# Altium schematic symbol library Custom1.SchLib: 476 symbols (part 12 of 16)
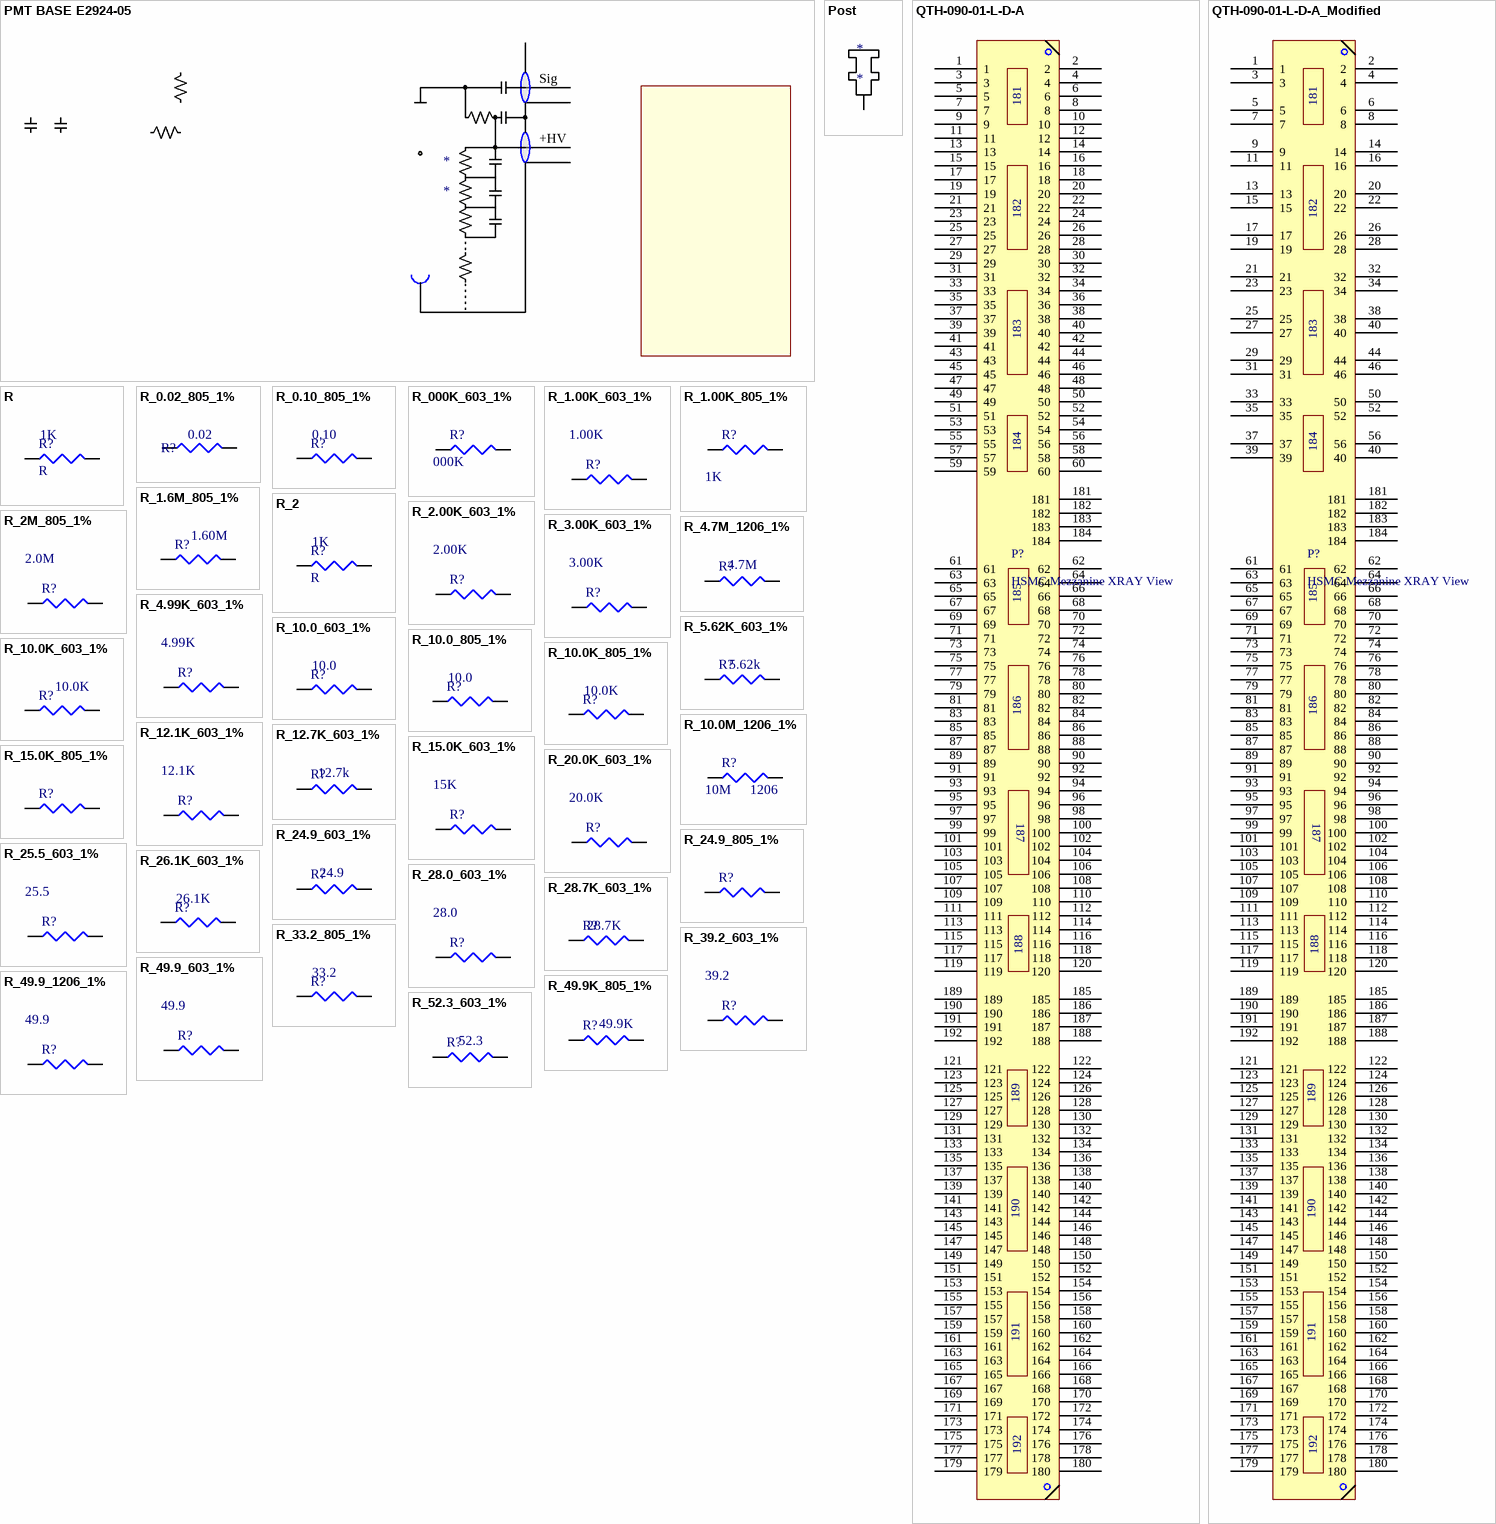
[diagram p36: symbols PMT BASE E2924-05 to R_52.3_603_1%]

## R_25.5_603_1%
designator R?  Resistance: 25.5  (hidden comment: R_25.5_603_1%)
RES 25.5 OHM 1/10W 1% 0603 SMD; Manufacturer: Panasonic; Manufacturer Part Number: ERJ3EKF25R5V; Power Rating: 100mW; Voltage Rating: 75V; Temperature Coefficient: 100ppm/°C; Voltage Rating (DC): 50V; Supplier 1: Digi-Key; Stock 1: 328927; Pricing 1: 1 = 0.10000, 10 = 0.06500, 100 = 0.02640, 1000 = 0.01186, 2500 = 0.01029 (USD); RoHS: Yes; Mount: Surface Mount; Case/Package: 0603; Weight: 7.1E-05oz; Case Code (Metric): 1608; Case Code (Imperial): 0603; Contact Plating: Tin; Min Operating Temperature: -55°C; Max Operating Temperature: 155°C; Tolerance: 1%; Packaging: Tape and Reel; Package Quantity: 1; Composition: Thick Film; Number of Terminations: 2; Termination: SMD/SMT; Max Power Dissipation: 100mW; Features: Automotive AEC-Q200; Length: 0.063inch; Height: 0.022inch; Width: 0.031inch; REACH SVHC: Yes; Lead Free: Lead Free; ComponentLink1URL: https://datasheet.ciiva.com/46419/1678782-46419831.pdf?src-supplier=Element14; ComponentLink1Description: https://datasheet.ciiva.com/46419/1678782-46419831.pdf?src-supplier=Element14; ComponentLink2URL: https://datasheet.ciiva.com/7777/1678782-7777965.pdf?src-supplier=Element14; ComponentLink2Description: https://datasheet.ciiva.com/7777/1678782-7777965.pdf?src-supplier=Element14; ComponentLink3URL: https://datasheet.ciiva.com/22667/1678782-22667770.pdf?src-supplier=Element14; ComponentLink3Description: https://datasheet.ciiva.com/22667/1678782-22667770.pdf?src-supplier=Element14; ComponentLink4URL: https://datasheet.ciiva.com/30155/aoa0000ce2-30155996.pdf?src-supplier=Onlinecomponents.com; ComponentLink4Description: https://datasheet.ciiva.com/30155/aoa0000ce2-30155996.pdf?src-supplier=Onlinecomponents.com; Supplier Part Number 1: P25.5HCT-ND
simulation model RESISTOR (Resistor)
signal-integrity model Res
footprint RES_0603 (Chip Resistor, Body 1.6x0.8mm, IPC Medium Density)
pins: 1, 2

## R_26.1K_603_1%
designator R?  value 26.1K  (hidden comment: R_26.1K_603_1%)
RES 26.1K OHM 1/10W 1% 0603 SMD; Manufacturer: Vishay Dale; Manufacturer Part Number: CRCW060326K1FKEA; Power (Watts): 0.1W, 1/10W; Temperature Coefficient: ±100ppm/°C; Supplier 1: Digi-Key; Supplier Part Number 1: 541-26.1KHCT-ND; RoHS: RoHS Compliant; Category: Resistors; Stock: 18995; Pricing: 10=0.081, 50=0.0436, 200=0.0251, 1000=0.01711 (USD); Packaging: Cut Tape (CT); Resistance (Ohms): 26.1k; Tolerance: ±1%; Composition: Thick Film; Features: Automotive AEC-Q200 Qualified; Package / Case: 0603 (1608 Metric); Supplier Device Package: 0603 (1608 Metric); Size / Dimension: 0.061" L x 0.033" W (1.55mm x 0.85mm); Height: 0.020" (0.50mm); Number of Terminations: 2; ComponentLink1URL: http://www.vishay.com/doc?20035; ComponentLink1Description: http://www.vishay.com/doc?20035
simulation model RESISTOR (Resistor)
signal-integrity model Res
footprint RES_0603 (Chip Resistor, Body 1.6x0.8mm, IPC Medium Density)
pins: 1, 2

## R_28.0_603_1%
designator R?  Resistance: 28.0  (hidden comment: R_28.0_603_1%)
RES 28.0 OHM 1/10W 1% 0603 SMD; Manufacturer: Panasonic; Manufacturer Part Number: ERJ3EKF28R0V; Power Rating: 100mW; Voltage Rating: 75V; Temperature Coefficient: 100ppm/°C; Voltage Rating (DC): 50V; Supplier 1: Digi-Key; Stock 1: 75130; Pricing 1: 1 = 0.10000, 10 = 0.06500, 100 = 0.02640, 1000 = 0.01186, 2500 = 0.01029 (USD); RoHS: Yes; Mount: Surface Mount; Case/Package: 0603; Case Code (Imperial): 0603; Case Code (Metric): 1608; Contact Plating: Tin; Min Operating Temperature: -55°C; Max Operating Temperature: 155°C; Tolerance: 1%; Package Quantity: 1; Packaging: Tape and Reel; Composition: Thick Film; Number of Terminations: 2; Max Power Dissipation: 100mW; Features: Automotive AEC-Q200; Length: 1.6mm; Height: 0.022inch; Width: 0.8mm; Radiation Hardening: No; REACH SVHC: Yes; Lead Free: Lead Free; ComponentLink1URL: https://datasheet.ciiva.com/46437/1678782-46437594.pdf?src-supplier=Element14; ComponentLink1Description: https://datasheet.ciiva.com/46437/1678782-46437594.pdf?src-supplier=Element14; ComponentLink2URL: https://datasheet.ciiva.com/22676/1678782-22676667.pdf?src-supplier=Element14; ComponentLink2Description: https://datasheet.ciiva.com/22676/1678782-22676667.pdf?src-supplier=Element14; ComponentLink3URL: https://datasheet.ciiva.com/22736/1678782-22736555.pdf?src-supplier=Element14; ComponentLink3Description: https://datasheet.ciiva.com/22736/1678782-22736555.pdf?src-supplier=Element14; Supplier Part Number 1: P28.0HCT-ND
simulation model RESISTOR (Resistor)
signal-integrity model Res
footprint RES_0603 (Chip Resistor, Body 1.6x0.8mm, IPC Medium Density)
pins: 1, 2

## R_28.7K_603_1%
designator R?  value 28.7K  (hidden comment: R_28.7K_603_1%)
RES 28.7K OHM 1/10W 1% 0603 SMD; Manufacturer: Vishay Dale; Manufacturer Part Number: CRCW060328K7FKEA; Power (Watts): 0.1W, 1/10W; Temperature Coefficient: ±100ppm/°C; Supplier 1: Digi-Key; RoHS: RoHS Compliant; Category: Resistors; Stock 1: 60; Pricing 1: 10=0.081, 50=0.0436, 200=0.0251, 1000=0.01711 (USD); Packaging: Cut Tape (CT); Resistance (Ohms): 28.7k; Tolerance: ±1%; Composition: Thick Film; Features: Automotive AEC-Q200; Operating Temperature: -55°C ~ 155°C; Package / Case: 0603 (1608 Metric); Supplier Device Package: 0603 (1608 Metric); Size / Dimension: 0.061" L x 0.033" W (1.55mm x 0.85mm); Height: 0.020" (0.50mm); Number of Terminations: 2; ComponentLink1URL: http://www.vishay.com/docs/20035/dcrcwe3.pdf; ComponentLink1Description: http://www.vishay.com/docs/20035/dcrcwe3.pdf; Supplier Part Number 1: 541-28.7KHCT-ND
simulation model RESISTOR (Resistor)
signal-integrity model Res
footprint RES_0603 (Chip Resistor, Body 1.6x0.8mm, IPC Medium Density)
pins: 1, 2

## R_33.2_805_1%
designator R?  value 33.2  (hidden comment: R_33.2_805_1%)
RES 33.2 OHM 1/8W 1% 0805 SMD; Manufacturer: Vishay Dale; Manufacturer Part Number: CRCW080533R2FKEA; Power (Watts): 0.125W, 1/8W; Temperature Coefficient: ±100ppm/°C; Supplier 1: Digi-Key; Supplier Part Number 1: 541-33.2CCT-ND; RoHS: RoHS Compliant; Category: Resistors; Stock: 305; Pricing: 10=0.089, 50=0.0482, 200=0.02765, 1000=0.01885 (USD); Packaging: Cut Tape (CT); Resistance (Ohms): 33.2; Tolerance: ±1%; Composition: Thick Film; Features: Automotive AEC-Q200 Qualified; Package / Case: 0805 (2012 Metric); Supplier Device Package: 0805 (2012 Metric); Size / Dimension: 0.079" L x 0.049" W (2.00mm x 1.25mm); Height: 0.020" (0.50mm); Number of Terminations: 2; ComponentLink1URL: http://www.vishay.com/doc?20035; ComponentLink1Description: http://www.vishay.com/doc?20035
simulation model RESISTOR (Resistor)
signal-integrity model Res
footprint RES_0603 (Chip Resistor, Body 1.6x0.8mm, IPC Medium Density)
footprint RES_0805 (Chip Resistor, Body 2.0x1.3mm, IPC Medium Density)
footprint RES_1206 (Chip Resistor, Body 3.2x1.6mm, IPC Medium Density)
footprint RES_0402 (Chip Resistor, Body 1.1x0.5mm, IPC Medium Density)
pins: 1, 2

## R_39.2_603_1%
designator R?  Resistance: 39.2  (hidden comment: R_39.2_603_1%)
RES 39.2 OHM 1/10W 1% 0603 SMD; Manufacturer: Panasonic; Manufacturer Part Number: ERJ-3EKF39R2V; Temperature Coefficient: 100ppm/°C; Voltage Rating: 75V; Power Rating: 100mW; Voltage Rating (DC): 50V; Supplier 1: Digi-Key; Stock 1: 214870; Pricing 1: 1 = 0.10000, 10 = 0.06500, 100 = 0.02640, 1000 = 0.01186, 2500 = 0.01029 (USD); RoHS: Yes; Mount: Surface Mount; Case/Package: 0603; Contact Plating: Tin; Case Code (Imperial): 0603; Case Code (Metric): 1608; Min Operating Temperature: -55°C; Max Operating Temperature: 155°C; Tolerance: 1%; Composition: Thick Film; Packaging: Tape and Reel; Package Quantity: 1; Number of Terminations: 2; Military Standard: Not; Termination: SMD/SMT; Max Power Dissipation: 100mW; Features: Automotive AEC-Q200; Length: 1.6mm; Height: 0.45mm; Width: 0.8mm; Depth: 0.8mm; Radiation Hardening: No; REACH SVHC: Unknown; Lead Free: Lead Free; ComponentLink1URL: https://datasheet.ciiva.com/16511/aoa0000ce2-16511754.pdf?src-supplier=Avnet+Asia; ComponentLink1Description: https://datasheet.ciiva.com/16511/aoa0000ce2-16511754.pdf?src-supplier=Avnet+Asia; ComponentLink2URL: https://datasheet.ciiva.com/16768/70260748-16768842.pdf?src-supplier=Allied+Electronics; ComponentLink2Description: https://datasheet.ciiva.com/16768/70260748-16768842.pdf?src-supplier=Allied+Electronics; ComponentLink3URL: https://datasheet.ciiva.com/9117/aoa0000ce2-9117259.pdf?src-supplier=Avnet; ComponentLink3Description: https://datasheet.ciiva.com/9117/aoa0000ce2-9117259.pdf?src-supplier=Avnet; ComponentLink4URL: https://datasheet.ciiva.com/30192/aoa0000ce2-30192907.pdf?src-supplier=Onlinecomponents.com; ComponentLink4Description: https://datasheet.ciiva.com/30192/aoa0000ce2-30192907.pdf?src-supplier=Onlinecomponents.com; ComponentLink5URL: https://datasheet.ciiva.com/5901/426256-5901661.pdf?src-supplier=Farnell; ComponentLink5Description: https://datasheet.ciiva.com/5901/426256-5901661.pdf?src-supplier=Farnell; ComponentLink6URL: https://datasheet.ciiva.com/17209/aoa0000ce2-17209901.pdf?src-supplier=Avnet+Europe; ComponentLink6Description: https://datasheet.ciiva.com/17209/aoa0000ce2-17209901.pdf?src-supplier=Avnet+Europe; ComponentLink7URL: https://datasheet.ciiva.com/16779/70260748-16779813.pdf?src-supplier=Allied+Electronics; ComponentLink7Description: https://datasheet.ciiva.com/16779/70260748-16779813.pdf?src-supplier=Allied+Electronics; ComponentLink8URL: https://datasheet.ciiva.com/46377/426256-46377078.pdf?src-supplier=Element14; ComponentLink8Description: https://datasheet.ciiva.com/46377/426256-46377078.pdf?src-supplier=Element14; ComponentLink9URL: https://datasheet.ciiva.com/46388/426256-46388618.pdf?src-supplier=Element14; ComponentLink9Description: https://datasheet.ciiva.com/46388/426256-46388618.pdf?src-supplier=Element14; Supplier Part Number 1: P39.2HCT-ND
simulation model RESISTOR (Resistor)
signal-integrity model Res
footprint RES_0603 (Chip Resistor, Body 1.6x0.8mm, IPC Medium Density)
pins: 1, 2

## R_49.9_603_1%
designator R?  Resistance: 49.9  (hidden comment: R_49.9_603_1%)
RES 49.9 OHM 1/10W 1% 0603 SMD; Manufacturer: Panasonic; Manufacturer Part Number: ERJ3EKF49R9V; Temperature Coefficient: 100ppm/°C; Power Rating: 100mW; Voltage Rating: 75V; Voltage Rating (DC): 50V; Working Voltage: 6V; Supplier 1: Digi-Key; Stock 1: 2435501; Pricing 1: 1 = 0.100000, 10 = 0.065000, 100 = 0.026400, 1000 = 0.011860, 2500 = 0.010290 (USD); RoHS: Yes; Mount: Surface Mount; Case/Package: 0603; Contact Plating: Tin; Case Code (Imperial): 0603; Case Code (Metric): 1608; Min Operating Temperature: -55°C; Max Operating Temperature: 155°C; Tolerance: 1%; Composition: Thick Film; Packaging: Tape and Reel; Package Quantity: 1; Number of Terminations: 2; Military Standard: Not; Termination: SMD/SMT; Max Power Dissipation: 100mW; Features: Automotive AEC-Q200; Length: 1.6mm; Height: 0.022inch; Width: 0.8mm; Depth: 0.8mm; Radiation Hardening: No; REACH SVHC: Unknown; Lead Free: Lead Free; ComponentLink1URL: https://datasheet.ciiva.com/16766/70260748-16766262.pdf?src-supplier=Allied+Electronics; ComponentLink1Description: https://datasheet.ciiva.com/16766/70260748-16766262.pdf?src-supplier=Allied+Electronics; ComponentLink2URL: https://datasheet.ciiva.com/9117/aoa0000ce2-9117128.pdf?src-supplier=Avnet; ComponentLink2Description: https://datasheet.ciiva.com/9117/aoa0000ce2-9117128.pdf?src-supplier=Avnet; ComponentLink3URL: https://datasheet.ciiva.com/16772/70260748-16772570.pdf?src-supplier=Allied+Electronics; ComponentLink3Description: https://datasheet.ciiva.com/16772/70260748-16772570.pdf?src-supplier=Allied+Electronics; ComponentLink4URL: https://datasheet.ciiva.com/28694/1678782-28694219.pdf?src-supplier=Element14; ComponentLink4Description: https://datasheet.ciiva.com/28694/1678782-28694219.pdf?src-supplier=Element14; ComponentLink5URL: https://datasheet.ciiva.com/30095/aoa0000ce2-30095355.pdf?src-supplier=Onlinecomponents.com; ComponentLink5Description: https://datasheet.ciiva.com/30095/aoa0000ce2-30095355.pdf?src-supplier=Onlinecomponents.com; ComponentLink6URL: https://datasheet.ciiva.com/48531/aoa0000ce2-48531019.pdf?src-supplier=Avnet; ComponentLink6Description: https://datasheet.ciiva.com/48531/aoa0000ce2-48531019.pdf?src-supplier=Avnet; ComponentLink7URL: https://datasheet.ciiva.com/46388/1678782-46388908.pdf?src-supplier=Element14; ComponentLink7Description: https://datasheet.ciiva.com/46388/1678782-46388908.pdf?src-supplier=Element14; Supplier Part Number 1: P49.9HCT-ND
simulation model RESISTOR (Resistor)
signal-integrity model Res
footprint RES_0603 (Chip Resistor, Body 1.6x0.8mm, IPC Medium Density)
pins: 1, 2

## R_49.9_1206_1%
designator R?  Resistance: 49.9  (hidden comment: R_49.9_1206_1%)
RES 50 OHM 1/2W 1% 1206 SMD; Manufacturer: Panasonic; Manufacturer Part Number: ERJ8ENF49R9V; Temperature Coefficient: 100ppm/°C; Power Rating: 250mW; Voltage Rating: 200V; ComponentLink1URL: http://www.vishay.com/docs/20043/crcwhpe3.pdf; ComponentLink1Description: http://www.vishay.com/docs/20043/crcwhpe3.pdf; Supplier 1: Digi-Key; Stock 1: 167353; Pricing 1: 1 = 0.11000, 10 = 0.10000, 100 = 0.03850, 1000 = 0.01695, 2500 = 0.01464 (USD); RoHS: Yes; Mount: Surface Mount; Case/Package: 1206; Contact Plating: Tin; Case Code (Metric): 3216; Case Code (Imperial): 1206; Min Operating Temperature: -55°C; Max Operating Temperature: 155°C; Tolerance: 1%; Composition: Thick Film; Packaging: Tape and Reel; Package Quantity: 1; Number of Terminations: 2; Military Standard: Not; Termination: SMD/SMT; Max Power Dissipation: 250mW; Voltage Rating (DC): 200V; Working Voltage: 200V; Features: Automotive AEC-Q200; Length: 3.2mm; Height: 0.6mm; Width: 0.063inch; Depth: 1.6mm; Radiation Hardening: No; REACH SVHC: Unknown; Lead Free: Lead Free; ComponentLink2URL: https://datasheet.ciiva.com/30178/aoa0000ce2-30178133.pdf?src-supplier=Onlinecomponents.com; ComponentLink2Description: https://datasheet.ciiva.com/30178/aoa0000ce2-30178133.pdf?src-supplier=Onlinecomponents.com; ComponentLink3URL: https://datasheet.ciiva.com/43460/426256-43460149.pdf?src-supplier=Farnell; ComponentLink3Description: https://datasheet.ciiva.com/43460/426256-43460149.pdf?src-supplier=Farnell; ComponentLink4URL: https://datasheet.ciiva.com/46377/426256-46377239.pdf?src-supplier=Element14; ComponentLink4Description: https://datasheet.ciiva.com/46377/426256-46377239.pdf?src-supplier=Element14; ComponentLink5URL: https://datasheet.ciiva.com/24027/aoa0000ce2-24027304.pdf?src-supplier=Mouser; ComponentLink5Description: https://datasheet.ciiva.com/24027/aoa0000ce2-24027304.pdf?src-supplier=Mouser; ComponentLink6URL: https://datasheet.ciiva.com/46388/426256-46388904.pdf?src-supplier=Element14; ComponentLink6Description: https://datasheet.ciiva.com/46388/426256-46388904.pdf?src-supplier=Element14; ComponentLink7URL: https://datasheet.ciiva.com/6159/426256-6159641.pdf?src-supplier=Farnell; ComponentLink7Description: https://datasheet.ciiva.com/6159/426256-6159641.pdf?src-supplier=Farnell; ComponentLink8URL: https://datasheet.ciiva.com/27055/1990245-27055770.pdf?src-supplier=Jameco; ComponentLink8Description: https://datasheet.ciiva.com/27055/1990245-27055770.pdf?src-supplier=Jameco; ComponentLink9URL: https://datasheet.ciiva.com/16725/70260748-16725115.pdf?src-supplier=Allied+Electronics; ComponentLink9Description: https://datasheet.ciiva.com/16725/70260748-16725115.pdf?src-supplier=Allied+Electronics; ComponentLink10URL: https://datasheet.ciiva.com/28694/1678782-28694252.pdf?src-supplier=Element14; ComponentLink10Description: https://datasheet.ciiva.com/28694/1678782-28694252.pdf?src-supplier=Element14; ComponentLink11URL: https://datasheet.ciiva.com/16785/70260748-16785263.pdf?src-supplier=Allied+Electronics; ComponentLink11Description: https://datasheet.ciiva.com/16785/70260748-16785263.pdf?src-supplier=Allied+Electronics; ComponentLink12URL: https://datasheet.ciiva.com/17209/aoa0000ce2-17209487.pdf?src-supplier=Avnet+Europe; ComponentLink12Description: https://datasheet.ciiva.com/17209/aoa0000ce2-17209487.pdf?src-supplier=Avnet+Europe; Supplier Part Number 1: P49.9FCT-ND
simulation model RESISTOR (Resistor)
signal-integrity model Res
footprint RES_1206 (Chip Resistor, Body 3.2x1.6mm, IPC Medium Density)
pins: 1, 2

## R_49.9K_805_1%
designator R?  value 49.9K  (hidden comment: R_49.9K_805_1%)
RES SMD 49.9K OHM 1% 1/8W 0805; Manufacturer: Vishay Dale; Manufacturer Part Number: CRCW080549K9FKEA; Power (Watts): 0.125W, 1/8W; Temperature Coefficient: ±100ppm/°C; Supplier 1: Digi-Key; RoHS: RoHS Compliant; Category: Resistors; Stock 1: 72254; Pricing 1: 10=0.089, 50=0.0482, 200=0.02765, 1000=0.01885 (USD); Packaging: Cut Tape (CT); Resistance (Ohms): 49.9k; Tolerance: ±1%; Composition: Thick Film; Features: Automotive AEC-Q200; Operating Temperature: -55°C ~ 155°C; Package / Case: 0805 (2012 Metric); Supplier Device Package: 0805 (2012 Metric); Size / Dimension: 0.079" L x 0.049" W (2.00mm x 1.25mm); Height: 0.020" (0.50mm); Number of Terminations: 2; ComponentLink1URL: http://www.vishay.com/docs/20035/dcrcwe3.pdf; ComponentLink1Description: http://www.vishay.com/docs/20035/dcrcwe3.pdf; Supplier Part Number 1: 541-49.9KCCT-ND
simulation model RESISTOR (Resistor)
signal-integrity model Res
footprint RES_0603 (Chip Resistor, Body 1.6x0.8mm, IPC Medium Density)
footprint RES_0805 (Chip Resistor, Body 2.0x1.3mm, IPC Medium Density)
footprint RES_1206 (Chip Resistor, Body 3.2x1.6mm, IPC Medium Density)
footprint RES_0402 (Chip Resistor, Body 1.1x0.5mm, IPC Medium Density)
pins: 1, 2

## R_52.3_603_1%
designator R?  value 52.3  (hidden comment: R_52.3_603_1%)
RES 52.3 OHM 1/10W 1% 0603 SMD; Manufacturer: Panasonic Electronic Components; Manufacturer Part Number: ERJ-3EKF52R3V; Power (Watts): 0.1W, 1/10W; Temperature Coefficient: ±100ppm/°C; Supplier 1: Digi-Key; RoHS: RoHS Compliant; Category: Resistors; Stock 1: 63954; Pricing 1: 1=0.1, 50=0.0114, 100=0.0084, 250=0.00644, 500=0.00514, 1000=0.00379 (USD); Packaging: Cut Tape (CT); Resistance (Ohms): 52.3; Tolerance: ±1%; Composition: Thick Film; Features: Automotive AEC-Q200; Operating Temperature: -55°C ~ 155°C; Package / Case: 0603 (1608 Metric); Supplier Device Package: 0603; Size / Dimension: 0.063" L x 0.031" W (1.60mm x 0.80mm); Height: 0.022" (0.55mm); Number of Terminations: 2; ComponentLink1URL: http://industrial.panasonic.com/www-cgi/jvcr13pz.cgi?E+PZ+3+AOA0002+ERJ3EKF52R3V+7+WW; ComponentLink1Description: http://industrial.panasonic.com/www-cgi/jvcr13pz.cgi?E+PZ+3+AOA0002+ERJ3EKF52R3V+7+WW; Supplier Part Number 1: P52.3HCT-ND
simulation model RESISTOR (Resistor)
signal-integrity model Res
footprint RES_0603 (Chip Resistor, Body 1.6x0.8mm, IPC Medium Density)
pins: 1, 2

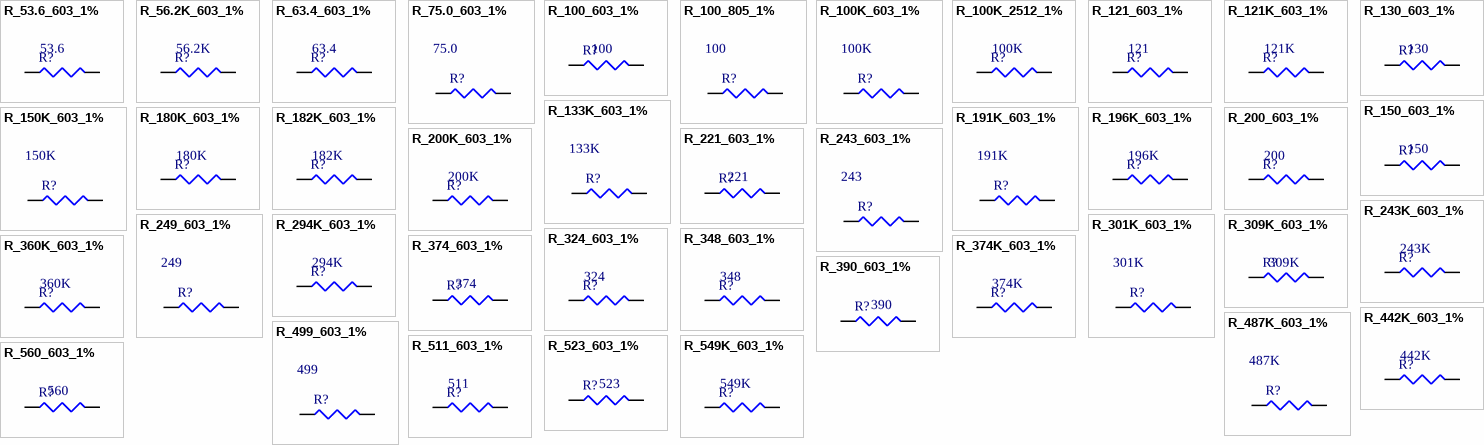
[diagram p20: symbols R_53.6_603_1% to R_560_603_1%]

## R_53.6_603_1%
designator R?  value 53.6  (hidden comment: R_53.6_603_1%)
RES 53.6 OHM 1/10W 1% 0603 SMD; Manufacturer: Vishay Dale; Manufacturer Part Number: CRCW060353R6FKEA; Power (Watts): 0.1W, 1/10W; Temperature Coefficient: ±100ppm/°C; Supplier 1: Digi-Key; Supplier Part Number 1: 541-53.6HCT-ND; RoHS: RoHS Compliant; Category: Resistors; Stock: 19164; Pricing: 10=0.081, 50=0.0436, 200=0.0251, 1000=0.01711 (USD); Packaging: Cut Tape (CT); Resistance (Ohms): 53.6; Tolerance: ±1%; Composition: Thick Film; Features: Automotive AEC-Q200 Qualified; Package / Case: 0603 (1608 Metric); Supplier Device Package: 0603 (1608 Metric); Size / Dimension: 0.061" L x 0.033" W (1.55mm x 0.85mm); Height: 0.020" (0.50mm); Number of Terminations: 2; ComponentLink1URL: http://www.vishay.com/doc?20035; ComponentLink1Description: http://www.vishay.com/doc?20035
simulation model RESISTOR (Resistor)
signal-integrity model Res
footprint RES_0603 (Chip Resistor, Body 1.6x0.8mm, IPC Medium Density)
pins: 1, 2

## R_56.2K_603_1%
designator R?  value 56.2K  (hidden comment: R_56.2K_603_1%)
RES 56.2K OHM 1/10W 1% 0603 SMD; Manufacturer: Vishay Dale; Manufacturer Part Number: CRCW060356K2FKEA; Power (Watts): 0.1W, 1/10W; Temperature Coefficient: ±100ppm/°C; Supplier 1: Digi-Key; Supplier Part Number 1: 541-56.2KHCT-ND; RoHS: RoHS Compliant; Category: Resistors; Stock: 42090; Pricing: 10=0.081, 50=0.0436, 200=0.0251, 1000=0.01711 (USD); Packaging: Cut Tape (CT); Resistance (Ohms): 56.2k; Tolerance: ±1%; Composition: Thick Film; Features: Automotive AEC-Q200 Qualified; Package / Case: 0603 (1608 Metric); Supplier Device Package: 0603 (1608 Metric); Size / Dimension: 0.061" L x 0.033" W (1.55mm x 0.85mm); Height: 0.020" (0.50mm); Number of Terminations: 2; ComponentLink1URL: http://www.vishay.com/doc?20035; ComponentLink1Description: http://www.vishay.com/doc?20035
simulation model RESISTOR (Resistor)
signal-integrity model Res
footprint RES_0603 (Chip Resistor, Body 1.6x0.8mm, IPC Medium Density)
pins: 1, 2

## R_63.4_603_1%
designator R?  value 63.4  (hidden comment: R_63.4_603_1%)
RES 63.4 OHM 1/10W 1% 0603 SMD; Manufacturer: Vishay Dale; Manufacturer Part Number: CRCW060363R4FKEA; Power (Watts): 0.1W, 1/10W; Temperature Coefficient: ±100ppm/°C; Supplier 1: Digi-Key; RoHS: RoHS Compliant; Category: Resistors; Stock 1: 8045; Pricing 1: 10=0.081, 50=0.0436, 200=0.0251, 1000=0.01711 (USD); Packaging: Cut Tape (CT); Resistance (Ohms): 63.4; Tolerance: ±1%; Composition: Thick Film; Features: Automotive AEC-Q200; Operating Temperature: -55°C ~ 155°C; Package / Case: 0603 (1608 Metric); Supplier Device Package: 0603 (1608 Metric); Size / Dimension: 0.061" L x 0.033" W (1.55mm x 0.85mm); Height: 0.020" (0.50mm); Number of Terminations: 2; ComponentLink1URL: http://www.vishay.com/docs/20035/dcrcwe3.pdf; ComponentLink1Description: http://www.vishay.com/docs/20035/dcrcwe3.pdf; Supplier Part Number 1: 541-63.4HCT-ND
simulation model RESISTOR (Resistor)
signal-integrity model Res
footprint RES_0603 (Chip Resistor, Body 1.6x0.8mm, IPC Medium Density)
pins: 1, 2

## R_75.0_603_1%
designator R?  Resistance: 75.0  (hidden comment: R_75.0_603_1%)
RES 75.0 OHM 1/10W 1% 0603 SMD; Manufacturer: Panasonic; Manufacturer Part Number: ERJ3EKF75R0V; Power Rating: 100mW; Voltage Rating: 75V; Temperature Coefficient: 100ppm/°C; Voltage Rating (DC): 50V; Supplier 1: Digi-Key; Stock 1: 1373514; Pricing 1: 1 = 0.10000, 10 = 0.06500, 100 = 0.02640, 1000 = 0.01186, 2500 = 0.01029 (USD); RoHS: Yes; Mount: Surface Mount; Case/Package: 0603; Case Code (Metric): 1608; Case Code (Imperial): 0603; Contact Plating: Tin; Min Operating Temperature: -55°C; Max Operating Temperature: 155°C; Tolerance: 1%; Packaging: Tape and Reel; Package Quantity: 1; Composition: Thick Film; Number of Terminations: 2; Military Standard: Not; Termination: SMD/SMT; Max Power Dissipation: 100mW; Features: Automotive AEC-Q200; Working Voltage: 75V; Length: 1.6mm; Height: 0.45mm; Width: 0.031inch; Depth: 0.8mm; Radiation Hardening: No; REACH SVHC: Unknown; Lead Free: Lead Free; ComponentLink1URL: https://datasheet.ciiva.com/15159/getdatasheetpartid-28796-15159205.pdf?src-supplier=Verical; ComponentLink1Description: https://datasheet.ciiva.com/15159/getdatasheetpartid-28796-15159205.pdf?src-supplier=Verical; ComponentLink2URL: https://datasheet.ciiva.com/27055/1988410-27055703.pdf?src-supplier=Jameco; ComponentLink2Description: https://datasheet.ciiva.com/27055/1988410-27055703.pdf?src-supplier=Jameco; ComponentLink3URL: https://datasheet.ciiva.com/48531/aoa0000ce2-48531543.pdf?src-supplier=Avnet; ComponentLink3Description: https://datasheet.ciiva.com/48531/aoa0000ce2-48531543.pdf?src-supplier=Avnet; ComponentLink4URL: https://datasheet.ciiva.com/9117/aoa0000ce2-9117161.pdf?src-supplier=Avnet; ComponentLink4Description: https://datasheet.ciiva.com/9117/aoa0000ce2-9117161.pdf?src-supplier=Avnet; ComponentLink5URL: https://datasheet.ciiva.com/24026/aoa0000ce2-24026441.pdf?src-supplier=Mouser; ComponentLink5Description: https://datasheet.ciiva.com/24026/aoa0000ce2-24026441.pdf?src-supplier=Mouser; ComponentLink6URL: https://datasheet.ciiva.com/46377/426256-46377003.pdf?src-supplier=Element14; ComponentLink6Description: https://datasheet.ciiva.com/46377/426256-46377003.pdf?src-supplier=Element14; ComponentLink7URL: https://datasheet.ciiva.com/5917/426256-5917836.pdf?src-supplier=Farnell; ComponentLink7Description: https://datasheet.ciiva.com/5917/426256-5917836.pdf?src-supplier=Farnell; ComponentLink8URL: https://datasheet.ciiva.com/16514/aoa0000ce2-16514172.pdf?src-supplier=Avnet+Asia; ComponentLink8Description: https://datasheet.ciiva.com/16514/aoa0000ce2-16514172.pdf?src-supplier=Avnet+Asia; ComponentLink9URL: https://datasheet.ciiva.com/28667/1678782-28667628.pdf?src-supplier=Element14; ComponentLink9Description: https://datasheet.ciiva.com/28667/1678782-28667628.pdf?src-supplier=Element14; ComponentLink10URL: https://datasheet.ciiva.com/43460/426256-43460430.pdf?src-supplier=Farnell; ComponentLink10Description: https://datasheet.ciiva.com/43460/426256-43460430.pdf?src-supplier=Farnell; ComponentLink11URL: https://datasheet.ciiva.com/16774/70260748-16774319.pdf?src-supplier=Allied+Electronics; ComponentLink11Description: https://datasheet.ciiva.com/16774/70260748-16774319.pdf?src-supplier=Allied+Electronics; ComponentLink12URL: https://datasheet.ciiva.com/30213/aoa0000ce2-30213401.pdf?src-supplier=Onlinecomponents.com; ComponentLink12Description: https://datasheet.ciiva.com/30213/aoa0000ce2-30213401.pdf?src-supplier=Onlinecomponents.com; ComponentLink13URL: https://datasheet.ciiva.com/22749/1678782-22749627.pdf?src-supplier=Element14; ComponentLink13Description: https://datasheet.ciiva.com/22749/1678782-22749627.pdf?src-supplier=Element14; Supplier Part Number 1: P75.0HCT-ND
simulation model RESISTOR (Resistor)
signal-integrity model Res
footprint RES_0603 (Chip Resistor, Body 1.6x0.8mm, IPC Medium Density)
pins: 1, 2

## R_100_603_1%
designator R?  Resistance: 100  (hidden comment: R_100_603_1%)
RES 100 OHM 1/10W 1% 0603 SMD; Manufacturer: Panasonic; Manufacturer Part Number: ERJ3EKF1000V; Temperature Coefficient: 100ppm/°C; Power Rating: 100mW; Voltage Rating: 75V; Supplier 1: Digi-Key; Stock 1: 5611311; Pricing 1: 1 = 0.100000, 10 = 0.065000, 100 = 0.026400, 1000 = 0.011860, 2500 = 0.010290 (USD); RoHS: Yes; Mount: Surface Mount; Case/Package: 0603; Number of Pins: 2; Weight: 7.1E-05oz; Contact Plating: Tin; Case Code (Imperial): 0603; Case Code (Metric): 1608; Min Operating Temperature: -55°C; Max Operating Temperature: 155°C; Tolerance: 1%; Composition: Thick Film; Packaging: Tape and Reel; Package Quantity: 1; Termination: SMD/SMT; Number of Terminations: 2; Military Standard: Not; Max Power Dissipation: 100mW; Voltage Rating (DC): 75V; Features: Automotive AEC-Q200; Length: 1.6mm; Height: 0.022inch; Width: 0.8mm; Depth: 0.8mm; Radiation Hardening: No; REACH SVHC: No SVHC; Lead Free: Lead Free; Supplier Part Number 1: P100HCT-ND; ComponentLink1Description: Datasheet; ComponentLink1URL: https://industrial.panasonic.com/cdbs/www-data/pdf/RDA0000/AOA0000C304.pdf; ComponentLink2Description: Supplier Link; ComponentLink2URL: https://www.digikey.com/products/en?keywords=P100HCT-ND
simulation model RESISTOR (Resistor)
signal-integrity model Res
footprint RES_0603 (Chip Resistor, Body 1.6x0.8mm, IPC Medium Density)
footprint RES_0805 (Chip Resistor, Body 2.0x1.3mm, IPC Medium Density)
footprint RES_1206 (Chip Resistor, Body 3.2x1.6mm, IPC Medium Density)
footprint RES_0402 (Chip Resistor, Body 1.1x0.5mm, IPC Medium Density)
pins: 1, 2

## R_100_805_1%
designator R?  Resistance: 100  (hidden comment: R_100_805_1%)
RES 100 OHM 1/2W 1% 0805 SMD; Manufacturer: Vishay Dale; Manufacturer Part Number: CRCW0805100RFKEAHP; Power Rating: 330mW; Voltage Rating: 150V; Temperature Coefficient: 100ppm/°C; ComponentLink1Description: Datasheet; ComponentLink1URL: http://www.vishay.com/docs/20043/crcwhpe3.pdf; Supplier 1: Digi-Key; Stock 1: 184139; Pricing 1: 1=0.26000, 10=0.22200, 100=0.08690, 1000=0.03638, 2500=0.03335 (USD); RoHS: Yes; Mount: Surface Mount; Case/Package: 0805; Weight: 0.000194oz; Case Code (Imperial): 0805; Case Code (Metric): 2012; Contact Plating: Tin; Min Operating Temperature: -55°C; Max Operating Temperature: 155°C; Tolerance: 1%; Packaging: Tape and Reel; Package Quantity: 5000; Termination: SMD/SMT; Composition: Thick Film; Military Standard: Not; Voltage Rating (DC): 150V; Length: 2mm; Height: 0.5mm; Width: 1.2mm; Depth: 1.25mm; Radiation Hardening: No; REACH SVHC: Unknown; Lead Free: Lead Free; ComponentLink2URL: https://datasheet.ciiva.com/22673/1885357-22673077.pdf?src-supplier=Element14; ComponentLink2Description: https://datasheet.ciiva.com/22673/1885357-22673077.pdf?src-supplier=Element14; ComponentLink3URL: https://datasheet.ciiva.com/5544/crcwhpe3-46056-5544902.pdf?src-supplier=Mouser; ComponentLink3Description: https://datasheet.ciiva.com/5544/crcwhpe3-46056-5544902.pdf?src-supplier=Mouser; ComponentLink4URL: https://datasheet.ciiva.com/22673/1885357-22673078.pdf?src-supplier=Element14; ComponentLink4Description: https://datasheet.ciiva.com/22673/1885357-22673078.pdf?src-supplier=Element14; ComponentLink5URL: https://datasheet.ciiva.com/3258/crcwhpe3-3258012.pdf?src-supplier=Avnet; ComponentLink5Description: https://datasheet.ciiva.com/3258/crcwhpe3-3258012.pdf?src-supplier=Avnet; Supplier Part Number 1: 541-100TCT-ND
simulation model RESISTOR (Resistor)
signal-integrity model Res
footprint RES_0603 (Chip Resistor, Body 1.6x0.8mm, IPC Medium Density)
footprint RES_0805 (Chip Resistor, Body 2.0x1.3mm, IPC Medium Density)
footprint RES_1206 (Chip Resistor, Body 3.2x1.6mm, IPC Medium Density)
footprint RES_0402 (Chip Resistor, Body 1.1x0.5mm, IPC Medium Density)
pins: 1, 2

## R_100K_603_1%
designator R?  Resistance: 100K  (hidden comment: R_100K_603_1%)
RES 100K OHM 1/10W 1% 0603 SMD; Manufacturer: Panasonic; Manufacturer Part Number: ERJ3EKF1003V; Temperature Coefficient: 100ppm/°C; Power Rating: 100mW; Voltage Rating: 75V; Supplier 1: Digi-Key; Stock 1: 5089820; Pricing 1: 5000 = 0.007730, 10000 = 0.006710, 25000 = 0.005900, 50000 = 0.005410, 125000 = 0.005300 (USD); RoHS: Yes; Mount: Surface Mount; Case/Package: 0603; Number of Pins: 2; Weight: 7.1E-05oz; Contact Plating: Tin; Case Code (Imperial): 0603; Case Code (Metric): 1608; Min Operating Temperature: -55°C; Max Operating Temperature: 155°C; Tolerance: 1%; Composition: Thick Film; Packaging: Tape and Reel; Package Quantity: 1; Termination: SMD/SMT; Number of Terminations: 2; Military Standard: Not; Max Power Dissipation: 100mW; Voltage Rating (DC): 75V; Features: Automotive AEC-Q200; Length: 1.6mm; Height: 0.022inch; Width: 0.8mm; Depth: 0.8mm; Radiation Hardening: No; REACH SVHC: No SVHC; Lead Free: Lead Free; ComponentLink1URL: https://datasheet.ciiva.com/34303/1987476-34303566.pdf?src-supplier=Jameco; ComponentLink1Description: https://datasheet.ciiva.com/34303/1987476-34303566.pdf?src-supplier=Jameco; ComponentLink2URL: https://datasheet.ciiva.com/30133/aoa0000ce2-30133845.pdf?src-supplier=Onlinecomponents.com; ComponentLink2Description: https://datasheet.ciiva.com/30133/aoa0000ce2-30133845.pdf?src-supplier=Onlinecomponents.com; ComponentLink3URL: https://datasheet.ciiva.com/16740/aoa0000ce2-16740662.pdf?src-supplier=Future+Electronics; ComponentLink3Description: https://datasheet.ciiva.com/16740/aoa0000ce2-16740662.pdf?src-supplier=Future+Electronics; ComponentLink4URL: https://datasheet.ciiva.com/15158/getdatasheetpartid-247527-15158907.pdf?src-supplier=Verical; ComponentLink4Description: https://datasheet.ciiva.com/15158/getdatasheetpartid-247527-15158907.pdf?src-supplier=Verical; ComponentLink5URL: https://datasheet.ciiva.com/16770/70260748-16770253.pdf?src-supplier=Allied+Electronics; ComponentLink5Description: https://datasheet.ciiva.com/16770/70260748-16770253.pdf?src-supplier=Allied+Electronics; Supplier Part Number 1: P100KHTR-ND
simulation model RESISTOR (Resistor)
signal-integrity model Res
footprint RES_0603 (Chip Resistor, Body 1.6x0.8mm, IPC Medium Density)
pins: 1, 2

## R_100K_2512_1%
designator R?  value 100K  (hidden comment: R_100K_2512_1%)
RES SMD 100K OHM 1% 2W 2512; Manufacturer: Stackpole Electronics Inc.; Manufacturer Part Number: HVCB2512FKC100K; Temperature Coefficient: ±50ppm/°C; Supplier 1: Digi-Key; RoHS: RoHS Compliant; Category: Resistors; Stock 1: 2779; Pricing 1: 1=3.39, 10=3.025, 50=2.6016, 100=2.2385, 250=1.936, 500=1.7545 (USD); Packaging: Cut Tape (CT); Resistance (Ohms): 100k; Tolerance: ±1%; Power (Watts): 2W; Composition: Thick Film; Features: High Voltage, Pulse Withstanding; Operating Temperature: -55°C ~ 150°C; Package / Case: 2512 (6432 Metric); Supplier Device Package: 2512; Size / Dimension: 0.250" L x 0.125" W (6.35mm x 3.18mm); Height: 0.030" (0.76mm); Number of Terminations: 2; ComponentLink1URL: http://www.seielect.com/catalog/SEI-HVC.pdf; ComponentLink1Description: http://www.seielect.com/catalog/SEI-HVC.pdf; Supplier Part Number 1: HVCB2512FKC100KCT-ND
simulation model RESISTOR (Resistor)
signal-integrity model Res
footprint RES_2512 (Chip Resistor, Body 6.3x3.2mm, IPC Medium Density)
pins: 1, 2

## R_121_603_1%
designator R?  value 121  (hidden comment: R_121_603_1%)
RES 121 OHM 1/10W 1% 0603 SMD; Manufacturer: Vishay Dale; Manufacturer Part Number: CRCW0603121RFKEA; Power (Watts): 0.1W, 1/10W; Temperature Coefficient: ±100ppm/°C; Supplier 1: Digi-Key; Supplier Part Number 1: 541-121HCT-ND; RoHS: RoHS Compliant; Category: Resistors; Stock: 55591; Pricing: 10=0.081, 50=0.0436, 200=0.0251, 1000=0.01711 (USD); Packaging: Cut Tape (CT); Resistance (Ohms): 121; Tolerance: ±1%; Composition: Thick Film; Features: Automotive AEC-Q200 Qualified; Package / Case: 0603 (1608 Metric); Supplier Device Package: 0603 (1608 Metric); Size / Dimension: 0.061" L x 0.033" W (1.55mm x 0.85mm); Height: 0.020" (0.50mm); Number of Terminations: 2; ComponentLink1URL: http://www.vishay.com/doc?20035; ComponentLink1Description: http://www.vishay.com/doc?20035
simulation model RESISTOR (Resistor)
signal-integrity model Res
footprint RES_0603 (Chip Resistor, Body 1.6x0.8mm, IPC Medium Density)
pins: 1, 2

## R_121K_603_1%
designator R?  value 121K  (hidden comment: R_121K_603_1%)
RES 121K OHM 1/10W 1% 0603 SMD; Manufacturer: Vishay Dale; Manufacturer Part Number: CRCW0603121KFKEA; Power (Watts): 0.1W, 1/10W; Temperature Coefficient: ±100ppm/°C; Supplier 1: Digi-Key; Supplier Part Number 1: 541-121KHCT-ND; RoHS: RoHS Compliant; Category: Resistors; Pricing: 10=0.081, 50=0.0436, 200=0.0251, 1000=0.01711 (USD); Packaging: Cut Tape (CT); Resistance (Ohms): 121k; Tolerance: ±1%; Composition: Thick Film; Features: Automotive AEC-Q200 Qualified; Package / Case: 0603 (1608 Metric); Supplier Device Package: 0603 (1608 Metric); Size / Dimension: 0.061" L x 0.033" W (1.55mm x 0.85mm); Height: 0.020" (0.50mm); Number of Terminations: 2; ComponentLink1URL: http://www.vishay.com/doc?20035; ComponentLink1Description: http://www.vishay.com/doc?20035; Stock: 5180
simulation model RESISTOR (Resistor)
signal-integrity model Res
footprint RES_0603 (Chip Resistor, Body 1.6x0.8mm, IPC Medium Density)
pins: 1, 2

## R_130_603_1%
designator R?  Resistance: 130  (hidden comment: R_130_603_1%)
RES SMD 130 OHM 1% 1/10W 0603; Manufacturer: Panasonic; Manufacturer Part Number: ERJ-3EKF1300V; Power Rating: 100mW; Voltage Rating: 75V; Temperature Coefficient: 100ppm/°C; Voltage Rating (DC): 50V; ComponentLink1Description: Supplier Link; ComponentLink1URL: https://www.digikey.com/products/en?keywords=P130HCT-ND; ComponentLink2Description: Datasheet; ComponentLink2URL: https://industrial.panasonic.com/cdbs/www-data/pdf/RDA0000/AOA0000C304.pdf; Supplier 1: Digi-Key; Stock 1: 304514; Pricing 1: 1 = 0.10000, 10 = 0.06500, 100 = 0.02640, 1000 = 0.01186, 2500 = 0.01029 (USD); RoHS: Yes; Mount: Surface Mount; Case/Package: 0603; Weight: 7.1E-05oz; Case Code (Metric): 1608; Case Code (Imperial): 0603; Contact Plating: Tin; Min Operating Temperature: -55°C; Max Operating Temperature: 155°C; Tolerance: 1%; Packaging: Tape and Reel; Package Quantity: 1; Composition: Thick Film; Number of Terminations: 2; Termination: SMD/SMT; Military Standard: Not; Max Power Dissipation: 100mW; Features: Automotive AEC-Q200; Length: 1.6mm; Height: 0.45mm; Width: 0.031inch; Depth: 0.8mm; Radiation Hardening: No; REACH SVHC: Unknown; Lead Free: Lead Free; ComponentLink3URL: https://datasheet.ciiva.com/34303/1987601-34303571.pdf?src-supplier=Jameco; ComponentLink3Description: https://datasheet.ciiva.com/34303/1987601-34303571.pdf?src-supplier=Jameco; ComponentLink4URL: https://datasheet.ciiva.com/9185/aoa0000ce2-9185848.pdf?src-supplier=Avnet; ComponentLink4Description: https://datasheet.ciiva.com/9185/aoa0000ce2-9185848.pdf?src-supplier=Avnet; ComponentLink5URL: https://datasheet.ciiva.com/30195/aoa0000ce2-30195017.pdf?src-supplier=Onlinecomponents.com; ComponentLink5Description: https://datasheet.ciiva.com/30195/aoa0000ce2-30195017.pdf?src-supplier=Onlinecomponents.com; ComponentLink6URL: https://datasheet.ciiva.com/5915/426256-5915290.pdf?src-supplier=Farnell; ComponentLink6Description: https://datasheet.ciiva.com/5915/426256-5915290.pdf?src-supplier=Farnell; ComponentLink7URL: https://datasheet.ciiva.com/16768/70260748-16768218.pdf?src-supplier=Allied+Electronics; ComponentLink7Description: https://datasheet.ciiva.com/16768/70260748-16768218.pdf?src-supplier=Allied+Electronics; ComponentLink8URL: https://datasheet.ciiva.com/16764/70260748-16764827.pdf?src-supplier=Allied+Electronics; ComponentLink8Description: https://datasheet.ciiva.com/16764/70260748-16764827.pdf?src-supplier=Allied+Electronics; ComponentLink9URL: https://datasheet.ciiva.com/26820/getdatasheetpartid-246475-26820860.pdf?src-supplier=Verical; ComponentLink9Description: https://datasheet.ciiva.com/26820/getdatasheetpartid-246475-26820860.pdf?src-supplier=Verical; ComponentLink10URL: https://datasheet.ciiva.com/28593/1678782-28593213.pdf?src-supplier=Element14; ComponentLink10Description: https://datasheet.ciiva.com/28593/1678782-28593213.pdf?src-supplier=Element14; ComponentLink11URL: https://datasheet.ciiva.com/46377/426256-46377005.pdf?src-supplier=Element14; ComponentLink11Description: https://datasheet.ciiva.com/46377/426256-46377005.pdf?src-supplier=Element14; ComponentLink12URL: https://datasheet.ciiva.com/46388/426256-46388478.pdf?src-supplier=Element14; ComponentLink12Description: https://datasheet.ciiva.com/46388/426256-46388478.pdf?src-supplier=Element14; ComponentLink13URL: https://datasheet.ciiva.com/24164/aoa0000ce2-24164335.pdf?src-supplier=Mouser; ComponentLink13Description: https://datasheet.ciiva.com/24164/aoa0000ce2-24164335.pdf?src-supplier=Mouser; Supplier Part Number 1: P130HCT-ND
simulation model RESISTOR (Resistor)
signal-integrity model Res
footprint RES_0603 (Chip Resistor, Body 1.6x0.8mm, IPC Medium Density)
pins: 1, 2

## R_133K_603_1%
designator R?  Resistance: 133K  (hidden comment: R_133K_603_1%)
RES 133K OHM 1/10W 1% 0603 SMD; Manufacturer: Panasonic; Manufacturer Part Number: ERJ-3EKF1333V; Voltage Rating: 75V; Power Rating: 100mW; Temperature Coefficient: 100ppm/°C; Voltage Rating (DC): 50V; Supplier 1: Digi-Key; Stock 1: 174046; Pricing 1: 1 = 0.10000, 10 = 0.06500, 100 = 0.02640, 1000 = 0.01186, 2500 = 0.01029 (USD); RoHS: Yes; Mount: Surface Mount; Case/Package: 0603; Case Code (Imperial): 0603; Case Code (Metric): 1608; Contact Plating: Tin; Min Operating Temperature: -55°C; Max Operating Temperature: 155°C; Packaging: Tape and Reel; Tolerance: 1%; Package Quantity: 1; Composition: Thick Film; Number of Terminations: 2; Termination: SMD/SMT; Military Standard: Not; Max Power Dissipation: 100mW; Features: Automotive AEC-Q200; Length: 1.6mm; Height: 0.022inch; Width: 0.8mm; Depth: 0.8mm; REACH SVHC: Unknown; Lead Free: Lead Free; Supplier Part Number 1: P133KHCT-ND; ComponentLink1Description: ERJ Series; ComponentLink1URL: https://industrial.panasonic.com/cdbs/www-data/pdf/RDA0000/AOA0000C304.pdf
simulation model RESISTOR (Resistor)
signal-integrity model Res
footprint RES_0603 (Chip Resistor, Body 1.6x0.8mm, IPC Medium Density)
pins: 1, 2

## R_150_603_1%
designator R?  Resistance: 150  (hidden comment: R_150_603_1%)
RES 150 OHM 1/10W 1% 0603 SMD; Manufacturer: Panasonic; Manufacturer Part Number: ERJ3EKF1500V; Temperature Coefficient: 100ppm/°C; Power Rating: 100mW; Voltage Rating: 75V; Supplier 1: Digi-Key; Stock 1: 890571; Pricing 1: 1 = 0.100000, 10 = 0.065000, 100 = 0.026400, 1000 = 0.011860, 2500 = 0.010290 (USD); RoHS: Yes; Mount: Surface Mount; Case/Package: 0603; Number of Pins: 2; Contact Plating: Tin; Case Code (Metric): 1608; Case Code (Imperial): 0603; Min Operating Temperature: -55°C; Max Operating Temperature: 155°C; Tolerance: 1%; Composition: Thick Film; Packaging: Tape and Reel; Package Quantity: 1; Number of Terminations: 2; Termination: SMD/SMT; Military Standard: Not; Max Power Dissipation: 100mW; Voltage Rating (DC): 75V; Features: Automotive AEC-Q200; Length: 1.6mm; Height: 0.022inch; Width: 0.031inch; Depth: 0.8mm; Radiation Hardening: No; REACH SVHC: No SVHC; Lead Free: Lead Free; Supplier Part Number 1: P150HCT-ND; ComponentLink1Description: Supplier Link; ComponentLink1URL: https://www.digikey.com/products/en?keywords=P150HCT-ND; ComponentLink2Description: Datasheet; ComponentLink2URL: https://industrial.panasonic.com/cdbs/www-data/pdf/RDA0000/AOA0000C304.pdf
simulation model RESISTOR (Resistor)
signal-integrity model Res
footprint RES_0603 (Chip Resistor, Body 1.6x0.8mm, IPC Medium Density)
pins: 1, 2

## R_150K_603_1%
designator R?  Resistance: 150K  (hidden comment: R_150K_603_1%)
RES 150K OHM 1/10W 1% 0603 SMD; Manufacturer: Panasonic; Manufacturer Part Number: ERJ3EKF1503V; Temperature Coefficient: 100ppm/°C; Power Rating: 100mW; Voltage Rating: 75V; Supplier 1: Digi-Key; Stock 1: 508830; Pricing 1: 1 = 0.10000, 10 = 0.06500, 100 = 0.02640, 1000 = 0.01186, 2500 = 0.01029 (USD); RoHS: Yes; Mount: Surface Mount; Case/Package: 0603; Number of Pins: 2; Weight: 7.1E-05oz; Contact Plating: Tin; Case Code (Imperial): 0603; Case Code (Metric): 1608; Min Operating Temperature: -55°C; Max Operating Temperature: 155°C; Tolerance: 1%; Composition: Thick Film; Packaging: Tape and Reel; Package Quantity: 1; Termination: SMD/SMT; Number of Terminations: 2; Military Standard: Not; Max Power Dissipation: 100mW; Voltage Rating (DC): 75V; Features: Automotive AEC-Q200; Length: 1.6mm; Height: 0.022inch; Width: 0.8mm; Depth: 0.8mm; Radiation Hardening: No; REACH SVHC: No SVHC; Lead Free: Lead Free; ComponentLink1URL: https://datasheet.ciiva.com/17207/aoa0000ce2-17207477.pdf?src-supplier=Avnet+Europe; ComponentLink1Description: https://datasheet.ciiva.com/17207/aoa0000ce2-17207477.pdf?src-supplier=Avnet+Europe; ComponentLink2URL: https://datasheet.ciiva.com/9185/aoa0000ce2-9185494.pdf?src-supplier=Avnet; ComponentLink2Description: https://datasheet.ciiva.com/9185/aoa0000ce2-9185494.pdf?src-supplier=Avnet; ComponentLink3URL: https://datasheet.ciiva.com/16787/70260748-16787015.pdf?src-supplier=Allied+Electronics; ComponentLink3Description: https://datasheet.ciiva.com/16787/70260748-16787015.pdf?src-supplier=Allied+Electronics; ComponentLink4URL: https://datasheet.ciiva.com/48530/aoa0000ce2-48530984.pdf?src-supplier=Avnet; ComponentLink4Description: https://datasheet.ciiva.com/48530/aoa0000ce2-48530984.pdf?src-supplier=Avnet; ComponentLink5URL: https://datasheet.ciiva.com/7909/aoa0000ce2-7909193.pdf?src-supplier=Element14; ComponentLink5Description: https://datasheet.ciiva.com/7909/aoa0000ce2-7909193.pdf?src-supplier=Element14; ComponentLink6URL: https://datasheet.ciiva.com/7909/426256-7909546.pdf?src-supplier=Element14; ComponentLink6Description: https://datasheet.ciiva.com/7909/426256-7909546.pdf?src-supplier=Element14; ComponentLink7URL: https://datasheet.ciiva.com/22687/1678782-22687434.pdf?src-supplier=Element14; ComponentLink7Description: https://datasheet.ciiva.com/22687/1678782-22687434.pdf?src-supplier=Element14; ComponentLink8URL: https://datasheet.ciiva.com/30145/aoa0000ce2-30145242.pdf?src-supplier=Onlinecomponents.com; ComponentLink8Description: https://datasheet.ciiva.com/30145/aoa0000ce2-30145242.pdf?src-supplier=Onlinecomponents.com; ComponentLink9URL: https://datasheet.ciiva.com/6137/aoa0000ce2-6137485.pdf?src-supplier=Farnell; ComponentLink9Description: https://datasheet.ciiva.com/6137/aoa0000ce2-6137485.pdf?src-supplier=Farnell; ComponentLink10URL: https://datasheet.ciiva.com/46420/1678782-46420173.pdf?src-supplier=Element14; ComponentLink10Description: https://datasheet.ciiva.com/46420/1678782-46420173.pdf?src-supplier=Element14; Supplier Part Number 1: P150KHCT-ND
simulation model RESISTOR (Resistor)
signal-integrity model Res
footprint RES_0603 (Chip Resistor, Body 1.6x0.8mm, IPC Medium Density)
pins: 1, 2

## R_180K_603_1%
designator R?  value 180K  (hidden comment: R_180K_603_1%)
RES 180K OHM 1/10W 1% 0603 SMD; Manufacturer: Vishay Dale; Manufacturer Part Number: CRCW0603180KFKEA; Power (Watts): 0.1W, 1/10W; Temperature Coefficient: ±100ppm/°C; Supplier 1: Digi-Key; Supplier Part Number 1: 541-180KHCT-ND; RoHS: RoHS Compliant; Category: Resistors; Pricing: 10=0.081, 50=0.0436, 200=0.0251, 1000=0.01711 (USD); Packaging: Cut Tape (CT); Resistance (Ohms): 180k; Tolerance: ±1%; Composition: Thick Film; Features: Automotive AEC-Q200 Qualified; Package / Case: 0603 (1608 Metric); Supplier Device Package: 0603 (1608 Metric); Size / Dimension: 0.061" L x 0.033" W (1.55mm x 0.85mm); Height: 0.020" (0.50mm); Number of Terminations: 2; ComponentLink1URL: http://www.vishay.com/doc?20035; ComponentLink1Description: http://www.vishay.com/doc?20035; Stock: 5912
simulation model RESISTOR (Resistor)
signal-integrity model Res
footprint RES_0603 (Chip Resistor, Body 1.6x0.8mm, IPC Medium Density)
pins: 1, 2

## R_182K_603_1%
designator R?  value 182K  (hidden comment: R_182K_603_1%)
RES 182K OHM 1/10W 1% 0603 SMD; Manufacturer: Vishay Dale; Manufacturer Part Number: CRCW0603182KFKEA; Power (Watts): 0.1W, 1/10W; Temperature Coefficient: ±100ppm/°C; Supplier 1: Digi-Key; Supplier Part Number 1: 541-182KHCT-ND; RoHS: RoHS Compliant; Category: Resistors; Stock: 44767; Pricing: 10=0.081, 50=0.0436, 200=0.0251, 1000=0.01711 (USD); Packaging: Cut Tape (CT); Resistance (Ohms): 182k; Tolerance: ±1%; Composition: Thick Film; Features: Automotive AEC-Q200 Qualified; Package / Case: 0603 (1608 Metric); Supplier Device Package: 0603 (1608 Metric); Size / Dimension: 0.061" L x 0.033" W (1.55mm x 0.85mm); Height: 0.020" (0.50mm); Number of Terminations: 2; ComponentLink1URL: http://www.vishay.com/doc?20035; ComponentLink1Description: http://www.vishay.com/doc?20035
simulation model RESISTOR (Resistor)
signal-integrity model Res
footprint RES_0603 (Chip Resistor, Body 1.6x0.8mm, IPC Medium Density)
pins: 1, 2

## R_191K_603_1%
designator R?  Resistance: 191K  (hidden comment: R_191K_603_1%)
RES 191K OHM 1/10W 1% 0603 SMD; Manufacturer: Panasonic; Manufacturer Part Number: ERJ3EKF1913V; Power Rating: 100mW; Voltage Rating: 75V; Temperature Coefficient: 100ppm/°C; Voltage Rating (DC): 50V; Supplier 1: Digi-Key; Stock 1: 56008; Pricing 1: 1 = 0.10000, 10 = 0.06500, 100 = 0.02640, 1000 = 0.01186, 2500 = 0.01029 (USD); RoHS: Yes; Mount: Surface Mount; Case/Package: 0603; Case Code (Imperial): 0603; Case Code (Metric): 1608; Contact Plating: Tin; Min Operating Temperature: -55°C; Max Operating Temperature: 155°C; Tolerance: 1%; Packaging: Tape and Reel; Package Quantity: 1; Composition: Thick Film; Number of Terminations: 2; Termination: SMD/SMT; Military Standard: Not; Max Power Dissipation: 100mW; Features: Automotive AEC-Q200; Length: 1.6mm; Height: 0.45mm; Width: 0.8mm; Depth: 0.8mm; REACH SVHC: No SVHC; Lead Free: Contains Lead; ComponentLink1URL: https://datasheet.ciiva.com/9184/aoa0000ce2-9184731.pdf?src-supplier=Avnet; ComponentLink1Description: https://datasheet.ciiva.com/9184/aoa0000ce2-9184731.pdf?src-supplier=Avnet; ComponentLink2URL: https://datasheet.ciiva.com/7853/aoa0000ce2-7853708.pdf?src-supplier=Element14; ComponentLink2Description: https://datasheet.ciiva.com/7853/aoa0000ce2-7853708.pdf?src-supplier=Element14; ComponentLink3URL: https://datasheet.ciiva.com/22673/1678782-22673788.pdf?src-supplier=Element14; ComponentLink3Description: https://datasheet.ciiva.com/22673/1678782-22673788.pdf?src-supplier=Element14; ComponentLink4URL: https://datasheet.ciiva.com/16760/70260748-16760669.pdf?src-supplier=Allied+Electronics; ComponentLink4Description: https://datasheet.ciiva.com/16760/70260748-16760669.pdf?src-supplier=Allied+Electronics; ComponentLink5URL: https://datasheet.ciiva.com/28564/1694929-28564222.pdf?src-supplier=Element14; ComponentLink5Description: https://datasheet.ciiva.com/28564/1694929-28564222.pdf?src-supplier=Element14; ComponentLink6URL: https://datasheet.ciiva.com/46420/1678782-46420334.pdf?src-supplier=Element14; ComponentLink6Description: https://datasheet.ciiva.com/46420/1678782-46420334.pdf?src-supplier=Element14; Supplier Part Number 1: P191KHCT-ND
simulation model RESISTOR (Resistor)
signal-integrity model Res
footprint RES_0603 (Chip Resistor, Body 1.6x0.8mm, IPC Medium Density)
pins: 1, 2